# Altium schematic symbol library LED,Tri-Color,RGB,SMD.SchLib: 1 symbol
Pins are listed as number, name and electrical type; pins without a type are passive.

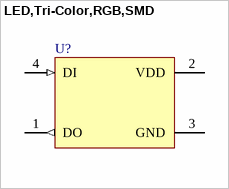
[diagram p0: symbol LED,Tri-Color,RGB,SMD]

## LED,Tri-Color,RGB,SMD
designator U?
pins: 1 DO (out), 2 VDD (power), 3 GND (power), 4 DI (in)